# EAGLE library part RFM69HCW (library upra_lib4eagle)
HopeRF RFM-69HCW Transceiver SMD_W/HOLES - 1.27mm pitch pinheader can be used to connect module SMD - only surface mount pads available
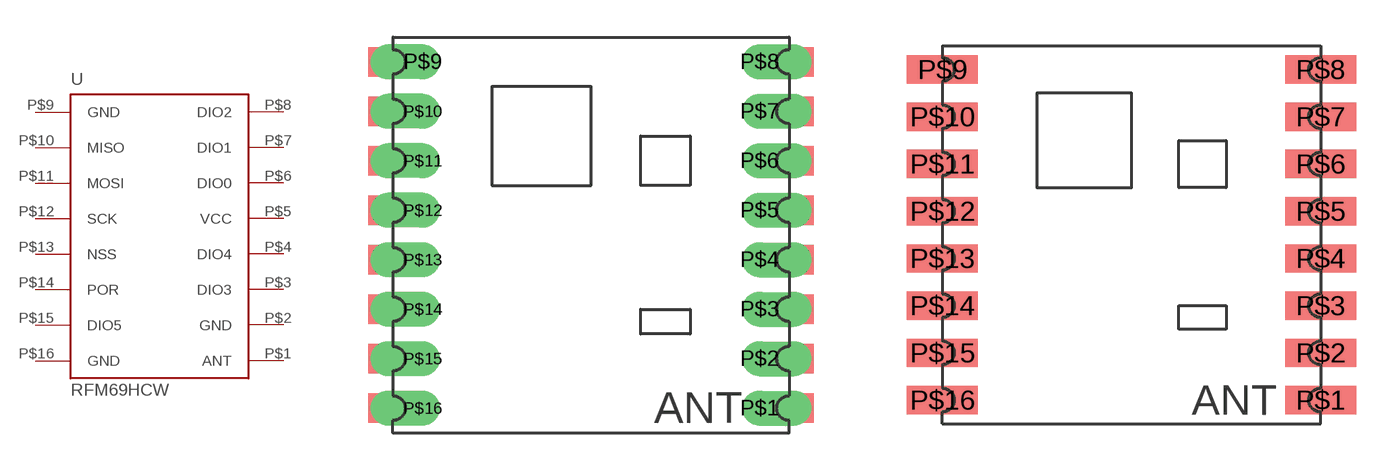
[diagram p7: symbol with the pads of RFM69HCW_DIP_SMD; footprints RFM69HCW_DIP_SMD, RFM69HCW_SMD]

Designator prefix -

## RFM69HCWSMD_W/HOLES  [RFM69HCW_DIP_SMD]
P$1  ANT
P$2  GND
P$3  DIO3
P$4  DIO4
P$5  VCC
P$6  DIO0
P$7  DIO1
P$8  DIO2
P$9  GND
P$10  MISO
P$11  MOSI
P$12  SCK
P$13  NSS
P$14  POR
P$15  DIO5
P$16  GND

## RFM69HCWSMD  [RFM69HCW_SMD]
Pads as for RFM69HCW_DIP_SMD

## Footprint RFM69HCW_DIP_SMD (pad centres in mm)
drill 0.9 pad 1.2 offset: P$1 6.8,-7; P$2 6.8,-5; P$3 6.8,-3; P$4 6.8,-1; P$5 6.8,1; P$6 6.8,3; P$7 6.8,5; P$8 6.8,7; P$9 -6.8,7; P$10 -6.8,5; P$11 -6.8,3; P$12 -6.8,1; P$13 -6.8,-1; P$14 -6.8,-3; P$15 -6.8,-5; P$16 -6.8,-7

## Footprint RFM69HCW_SMD (pad centres in mm)
smd 3 x 1.2: P$1 8,-7; P$2 8,-5; P$3 8,-3; P$4 8,-1; P$5 8,1; P$6 8,3; P$7 8,5; P$8 8,7; P$9 -8,7; P$10 -8,5; P$11 -8,3; P$12 -8,1; P$13 -8,-1; P$14 -8,-3; P$15 -8,-5; P$16 -8,-7